# Altium schematic symbol library MICROSD.SchLib: 3 symbols
Pins are listed as number, name and electrical type; pins without a type are passive.

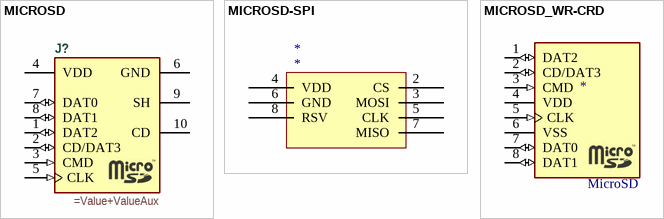
[diagram p0: symbols MICROSD to MICROSD_WR-CRD]

## MICROSD
designator J?
=Description
pins: 1 DAT2 (io), 2 CD/DAT3 (io), 3 CMD (in), 4 VDD (power), 5 CLK (in), 6 GND (power), 7 DAT0 (io), 8 DAT1 (io), 9 SH, 10 CD

## MICROSD-SPI
designator *
footprint MICROSD_WR-CRD (Micro SD from Würth Electronics, WR-CRD)
pins: 2 CS, 3 MOSI, 4 VDD, 5 CLK, 6 GND, 7 MISO, 8 RSV

## MICROSD_WR-CRD
designator *, comment MicroSD
footprint MICROSD_WR-CRD (Micro SD from Würth Electronics, WR-CRD)
pins: 1 DAT2 (io) "Connector data line 2", 2 CD/DAT3 (io) "Card detection", 3 CMD (in) "Command/Answer", 4 VDD (power) "Voltage", 5 CLK (in) "Clock", 6 VSS (power) "Ground", 7 DAT0 (io) "Connector data line 0", 8 DAT1 (io) "Connector data line 1"